# Altium integrated library MINI-CAR-BLADE-FUSE.IntLib: 1 symbol
Pins are listed as number, name and electrical type; pins without a type are passive.

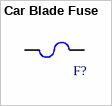
[diagram p0: symbol Car Blade Fuse]

## Car Blade Fuse
designator F?  (value not drawn)
Mini Car Blade Fuses Zinc Auto Fuse
footprint Mini Car Blade Fuse (Low Profile Small Blade Fuse)
pins: 1, 2